# Altium integrated library Linear Technology Power Management PMIC Multifunction.IntLib: 360 symbols (part 12 of 42)
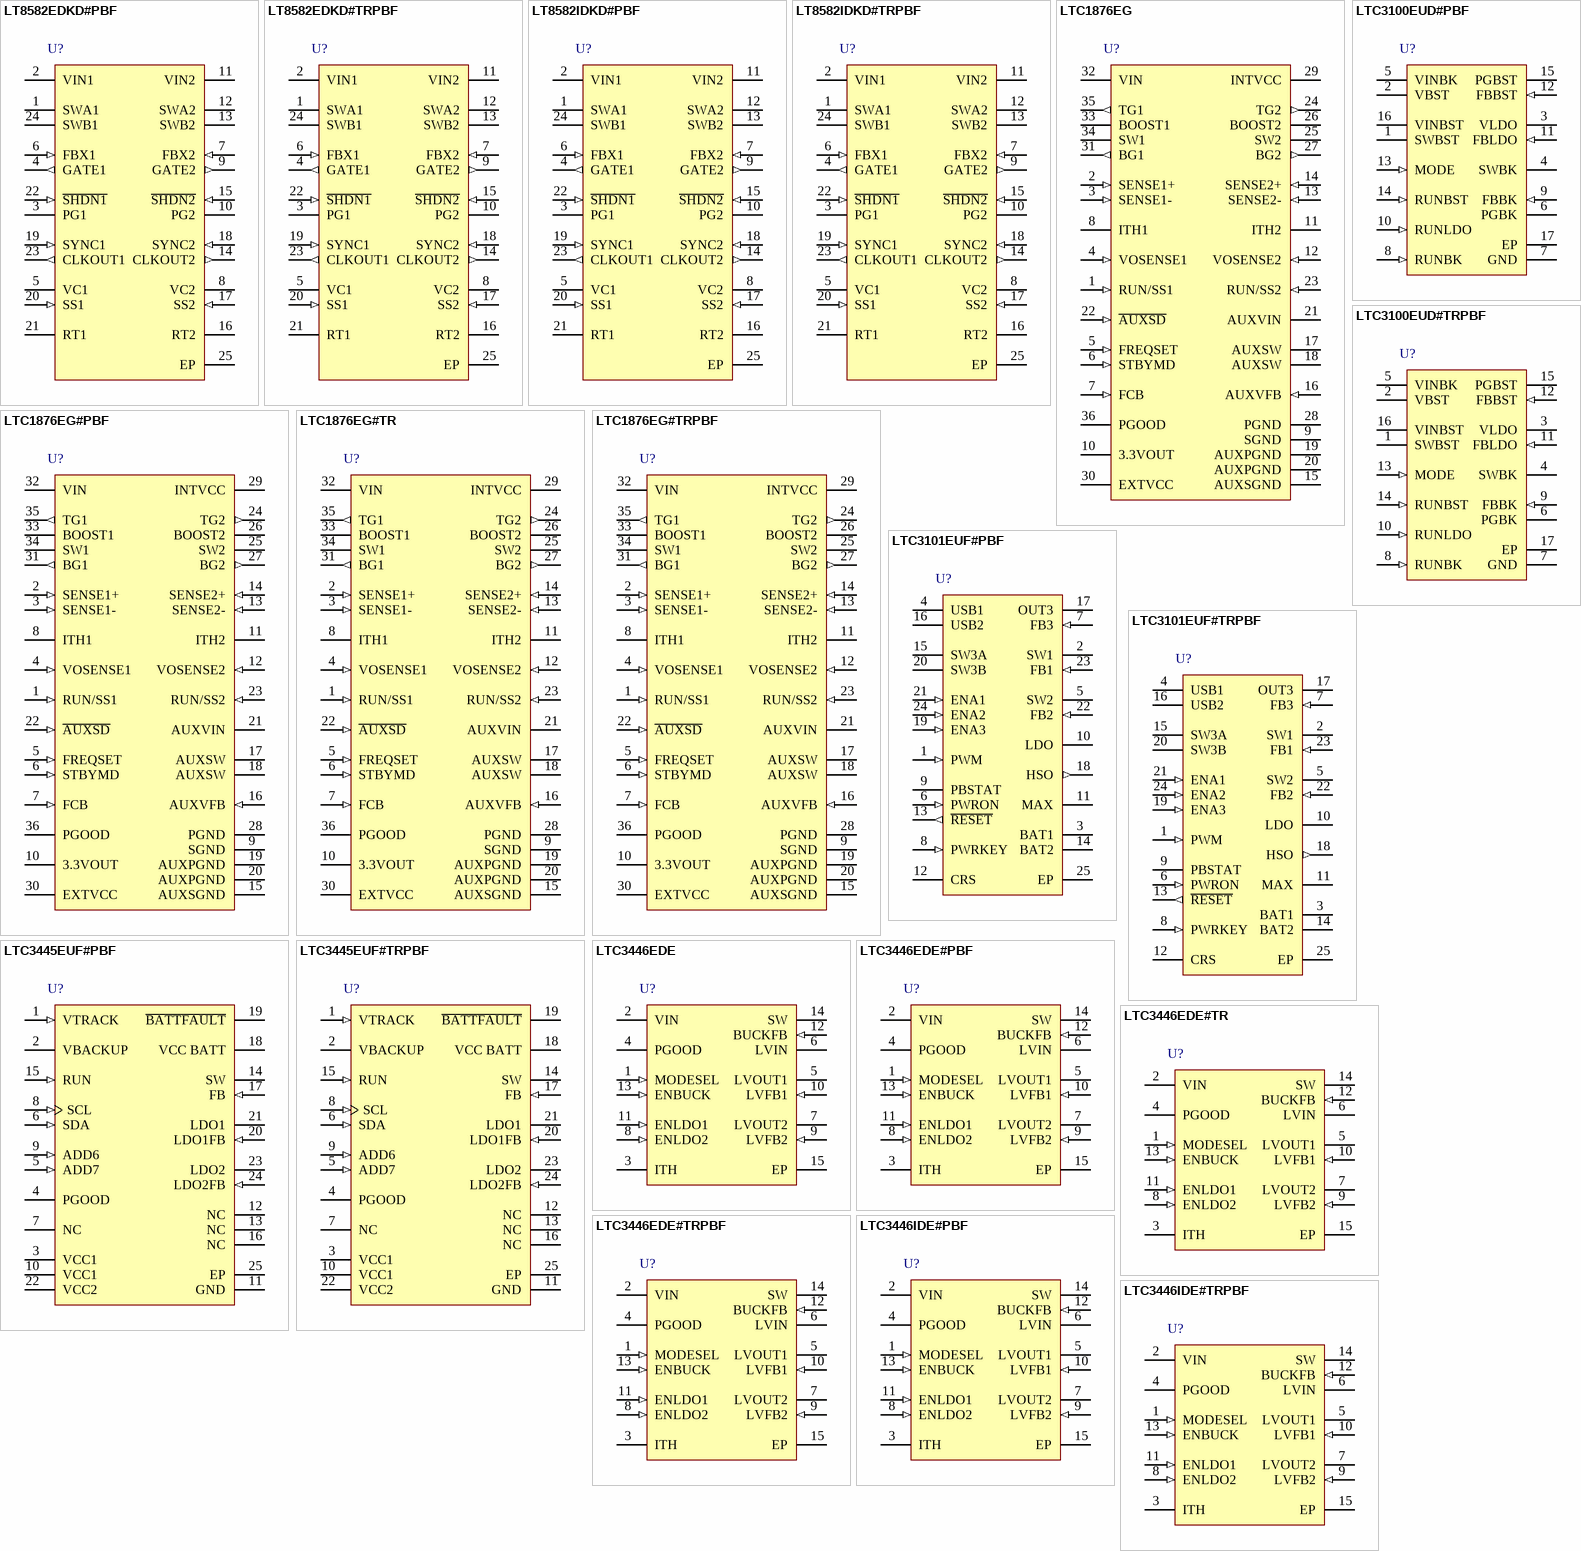
[diagram p29: symbols LT8582EDKD#PBF to LTC3446IDE#TRPBF]

## LTC1876EG#PBF
designator U?
High Efficiency, 2-Phase, Dual Synchronous Step-Down Switching Controller and Step-Up Regulator, 3.5 to 36 V Vin, 36-pin SOP (G-36), -40 to 85 degC, Pb-Free; Manufacturer: Linear Technology; PartNumber: LTC1876EG#PBF; Number of Outputs: 3; Vin Max(V): 36; Vin Min(V): 3.5; DatasheetVersion: Rev. A; PackageReference: G-36; PackageDescription: 36-Pin Plastic SSOP, Body 12.8 x 5.3 mm, Pitch 0.65 mm; Supplier 1: Digi-Key; Supplier Part Number 1: LTC1876EG#PBF-ND; Supplier 2: Newark; Supplier Part Number 2: 56M4292; RoHS: TRUE; Mounting Technology: Surface Mount; ComponentLink1Description: Manufacturer URL; ComponentLink1URL: http://www.linear.com/; ComponentLink2Description: Datasheet; ComponentLink2URL: http://cds.linear.com/docs/en/datasheet/1876fa.pdf; ComponentLink3Description: Package Specification; ComponentLink3URL: http://cds.linear.com/docs/en/packaging/SSOP_36_05-08-1640.pdf
footprint LT-G-36_N (SOP, 36-Leads, Body 13.1x5.6mm, Pitch 0.65mm, IPC Medium Density)
footprint LT-G-36_L (SOP, 36-Leads, Body 13.1x5.6mm, Pitch 0.65mm, IPC High Density)
footprint LT-G-36_M (SOP, 36-Leads, Body 13.1x5.6mm, Pitch 0.65mm, IPC Low Density)
pins: 1 RUN/SS1 (in) "Combination of Soft-Start, Run Control Inputs and Short-Circuit Detection Timers. A capacitor to ground at each of these pins sets the ramp time to full output current. Forcing either of these pins back below 1V causes the (See Datasheet)", 2 SENSE1+ (in) "The (+) Input to each Differential Current Comparator. The ITH pin voltage and controlled offsets between the SENSE- and SENSE+ pins in conjunction with RSENSE set the current trip threshold.", 3 SENSE1- (in) "The (-) Input to the Differential Current Comparators.", 4 VOSENSE1 (in) "Receives the remotelysensed feedback voltage for each controller from an external resistive divider across the output.", 5 FREQSET (in) "Frequency Control Input to the Oscillator. This pin can be left open, tied to ground, tied to INTVCC or driven by an external voltage source. This pin can also be used with an external phase detector to build a true (See Datasheet)", 6 STBYMD (in) "Control pin that determines which circuitry remains active when the controllers are shut down and/or provides a common control point to shut down both controllers. See the Operation section for details.", 7 FCB (in) "Forced Continuous Control Input. This input acts on both controllers and is normally used to regulate a secondary winding. Pulling this pin below 0.8V will force continuous synchronous operation on both controllers. Do not (See Datasheet)", 8 ITH1 "Error Amplifier Output and Switching Regulator Compensation Point. Each associated channel’s current comparator trip point increases with this control voltage.", 9 SGND (power) "Small signal ground common to both controllers, must be routed separately from high current grounds to the common (-) terminals of the COUT capacitors.", 10 3.3VOUT (power) "Output of a linear regulator capable of supplying up to 10mA DC with peak currents as high as 50mA.", 11 ITH2 "Error Amplifier Output and Switching Regulator Compensation Point. Each associated channel’s current comparator trip point increases with this control voltage.", 12 VOSENSE2 (in) "Receives the remotelysensed feedback voltage for each controller from an external resistive divider across the output.", 13 SENSE2- (in) "The (-) Input to the Differential Current Comparators.", 14 SENSE2+ (in) "The (+) Input to each Differential Current Comparator. The ITH pin voltage and controlled offsets between the SENSE- and SENSE+ pins in conjunction with RSENSE set the current trip threshold.", 15 AUXSGND (power) "Small Signal Ground of the Auxiliary Boost Regulator.", 16 AUXVFB (in) "Auxiliary Boost Regulator Feedback Voltage. This pin receives the feedback voltage from an external resistive divider across the auxiliary output.", 17 AUXSW "Switch Node Connections to Inductor for the Auxiliary Regulator. Voltage swing at these pins are from ground to (VOUT + voltage across Shottky diode). Minimize trace area at these pins to keep EMI down.", 18 AUXSW "Switch Node Connections to Inductor for the Auxiliary Regulator. Voltage swing at these pins are from ground to (VOUT + voltage across Shottky diode). Minimize trace area at these pins to keep EMI down.", 19 AUXPGND (power) "The Auxiliary Power Ground Pins. Its gate drive currents are returned to these pin.", 20 AUXPGND (power) "The Auxiliary Power Ground Pins. Its gate drive currents are returned to these pin.", 21 AUXVIN (power) "Auxiliary Boost Regulator Controller Supply Pin. Must be closely decoupled to AUXPGND.", 22 ~{AUXSD} (in) "Shutdown Pin for the Auxiliary Regulator. Connect to 2.4V or more to enable the auxiliary regulator or ground to shut the auxiliary regulator off.", 23 RUN/SS2 (in) "Combination of Soft-Start, Run Control Inputs and Short-Circuit Detection Timers. A capacitor to ground at each of these pins sets the ramp time to full output current. Forcing either of these pins back below 1V causes the (See Datasheet)", 24 TG2 (out) "High Current Gate Drives for Top N-Channel MOSFETs. These are the outputs of floating drivers with a voltage swing equal to INTVCC - 0.5V superimposed on the switch node voltage SW.", 25 SW2 "Switch Node Connections to Inductors. Voltage swing at these pins is from a Schottky diode (external) voltage drop below ground to VIN.", 26 BOOST2 "Bootstrapped Supplies to the Top Side Floating Drivers. Capacitors are connected between the boost and switch pins and Schottky diodes are tied between the boost and INTVCC pins. Voltage swing at the boost pins is from (See Datasheet)", 27 BG2 (out) "High Current Gate Drives for Bottom (synchronous) N-Channel MOSFETs. Voltage swing at these pins is from ground to INTVCC.", 28 PGND (power) "Driver Power Ground. Connects to sources of bottom (synchronous) N-channel MOSFETs, anode of the Schottky rectifier and the (-) terminal(s) of CIN.", 29 INTVCC (power) "Output of the Internal 5V Linear Low Dropout Regulator and the EXTVCC Switch. The driver and control circuits are powered from this voltage source. Must be decoupled to power ground with a minimum of 4.7mF tantalum or other, (See Datasheet)", 30 EXTVCC (power) "External Power Input to an Internal Switch Connected to INTVCC. This switch closes and supplies VCC power, bypassing the internal low dropout regulator, whenever EXTVCC is higher than 4.7V. See EXTVCC connection in (See Datasheet)", 31 BG1 (out) "High Current Gate Drives for Bottom (synchronous) N-Channel MOSFETs. Voltage swing at these pins is from ground to INTVCC.", 32 VIN (power) "Main Supply Pin. A bypass capacitor should be tied between this pin and the signal ground pin.", 33 BOOST1 "Bootstrapped Supplies to the Top Side Floating Drivers. Capacitors are connected between the boost and switch pins and Schottky diodes are tied between the boost and INTVCC pins. Voltage swing at the boost pins is from (See Datasheet)", 34 SW1 "Switch Node Connections to Inductors. Voltage swing at these pins is from a Schottky diode (external) voltage drop below ground to VIN.", 35 TG1 (out) "High Current Gate Drives for Top N-Channel MOSFETs. These are the outputs of floating drivers with a voltage swing equal to INTVCC - 0.5V superimposed on the switch node voltage SW.", 36 PGOOD (oc) "Open-Drain Logic Output. PGOOD is pulled to ground when the voltage on either VOSENSE pin is not within 7.5% of its setpoint."

## LTC1876EG#TR
designator U?
High Efficiency, 2-Phase, Dual Synchronous Step-Down Switching Controller and Step-Up Regulator, 3.5 to 36 V Vin, 36-pin SOP (G-36), -40 to 85 degC, Tape and Reel; Manufacturer: Linear Technology; PartNumber: LTC1876EG#TR; Number of Outputs: 3; Vin Max(V): 36; Vin Min(V): 3.5; DatasheetVersion: Rev. A; PackageReference: G-36; PackageDescription: 36-Pin Plastic SSOP, Body 12.8 x 5.3 mm, Pitch 0.65 mm; Supplier 1: Digi-Key; Supplier Part Number 1: LTC1876EG#TR-ND; Packing: Tape and Reel; RoHS: FALSE; Mounting Technology: Surface Mount; ComponentLink1Description: Manufacturer URL; ComponentLink1URL: http://www.linear.com/; ComponentLink2Description: Datasheet; ComponentLink2URL: http://cds.linear.com/docs/en/datasheet/1876fa.pdf; ComponentLink3Description: Package Specification; ComponentLink3URL: http://cds.linear.com/docs/en/packaging/SSOP_36_05-08-1640.pdf
footprint LT-G-36_N (SOP, 36-Leads, Body 13.1x5.6mm, Pitch 0.65mm, IPC Medium Density)
footprint LT-G-36_L (SOP, 36-Leads, Body 13.1x5.6mm, Pitch 0.65mm, IPC High Density)
footprint LT-G-36_M (SOP, 36-Leads, Body 13.1x5.6mm, Pitch 0.65mm, IPC Low Density)
pins: 1 RUN/SS1 (in) "Combination of Soft-Start, Run Control Inputs and Short-Circuit Detection Timers. A capacitor to ground at each of these pins sets the ramp time to full output current. Forcing either of these pins back below 1V causes the (See Datasheet)", 2 SENSE1+ (in) "The (+) Input to each Differential Current Comparator. The ITH pin voltage and controlled offsets between the SENSE- and SENSE+ pins in conjunction with RSENSE set the current trip threshold.", 3 SENSE1- (in) "The (-) Input to the Differential Current Comparators.", 4 VOSENSE1 (in) "Receives the remotelysensed feedback voltage for each controller from an external resistive divider across the output.", 5 FREQSET (in) "Frequency Control Input to the Oscillator. This pin can be left open, tied to ground, tied to INTVCC or driven by an external voltage source. This pin can also be used with an external phase detector to build a true (See Datasheet)", 6 STBYMD (in) "Control pin that determines which circuitry remains active when the controllers are shut down and/or provides a common control point to shut down both controllers. See the Operation section for details.", 7 FCB (in) "Forced Continuous Control Input. This input acts on both controllers and is normally used to regulate a secondary winding. Pulling this pin below 0.8V will force continuous synchronous operation on both controllers. Do not (See Datasheet)", 8 ITH1 "Error Amplifier Output and Switching Regulator Compensation Point. Each associated channel’s current comparator trip point increases with this control voltage.", 9 SGND (power) "Small signal ground common to both controllers, must be routed separately from high current grounds to the common (-) terminals of the COUT capacitors.", 10 3.3VOUT (power) "Output of a linear regulator capable of supplying up to 10mA DC with peak currents as high as 50mA.", 11 ITH2 "Error Amplifier Output and Switching Regulator Compensation Point. Each associated channel’s current comparator trip point increases with this control voltage.", 12 VOSENSE2 (in) "Receives the remotelysensed feedback voltage for each controller from an external resistive divider across the output.", 13 SENSE2- (in) "The (-) Input to the Differential Current Comparators.", 14 SENSE2+ (in) "The (+) Input to each Differential Current Comparator. The ITH pin voltage and controlled offsets between the SENSE- and SENSE+ pins in conjunction with RSENSE set the current trip threshold.", 15 AUXSGND (power) "Small Signal Ground of the Auxiliary Boost Regulator.", 16 AUXVFB (in) "Auxiliary Boost Regulator Feedback Voltage. This pin receives the feedback voltage from an external resistive divider across the auxiliary output.", 17 AUXSW "Switch Node Connections to Inductor for the Auxiliary Regulator. Voltage swing at these pins are from ground to (VOUT + voltage across Shottky diode). Minimize trace area at these pins to keep EMI down.", 18 AUXSW "Switch Node Connections to Inductor for the Auxiliary Regulator. Voltage swing at these pins are from ground to (VOUT + voltage across Shottky diode). Minimize trace area at these pins to keep EMI down.", 19 AUXPGND (power) "The Auxiliary Power Ground Pins. Its gate drive currents are returned to these pin.", 20 AUXPGND (power) "The Auxiliary Power Ground Pins. Its gate drive currents are returned to these pin.", 21 AUXVIN (power) "Auxiliary Boost Regulator Controller Supply Pin. Must be closely decoupled to AUXPGND.", 22 ~{AUXSD} (in) "Shutdown Pin for the Auxiliary Regulator. Connect to 2.4V or more to enable the auxiliary regulator or ground to shut the auxiliary regulator off.", 23 RUN/SS2 (in) "Combination of Soft-Start, Run Control Inputs and Short-Circuit Detection Timers. A capacitor to ground at each of these pins sets the ramp time to full output current. Forcing either of these pins back below 1V causes the (See Datasheet)", 24 TG2 (out) "High Current Gate Drives for Top N-Channel MOSFETs. These are the outputs of floating drivers with a voltage swing equal to INTVCC - 0.5V superimposed on the switch node voltage SW.", 25 SW2 "Switch Node Connections to Inductors. Voltage swing at these pins is from a Schottky diode (external) voltage drop below ground to VIN.", 26 BOOST2 "Bootstrapped Supplies to the Top Side Floating Drivers. Capacitors are connected between the boost and switch pins and Schottky diodes are tied between the boost and INTVCC pins. Voltage swing at the boost pins is from (See Datasheet)", 27 BG2 (out) "High Current Gate Drives for Bottom (synchronous) N-Channel MOSFETs. Voltage swing at these pins is from ground to INTVCC.", 28 PGND (power) "Driver Power Ground. Connects to sources of bottom (synchronous) N-channel MOSFETs, anode of the Schottky rectifier and the (-) terminal(s) of CIN.", 29 INTVCC (power) "Output of the Internal 5V Linear Low Dropout Regulator and the EXTVCC Switch. The driver and control circuits are powered from this voltage source. Must be decoupled to power ground with a minimum of 4.7mF tantalum or other, (See Datasheet)", 30 EXTVCC (power) "External Power Input to an Internal Switch Connected to INTVCC. This switch closes and supplies VCC power, bypassing the internal low dropout regulator, whenever EXTVCC is higher than 4.7V. See EXTVCC connection in (See Datasheet)", 31 BG1 (out) "High Current Gate Drives for Bottom (synchronous) N-Channel MOSFETs. Voltage swing at these pins is from ground to INTVCC.", 32 VIN (power) "Main Supply Pin. A bypass capacitor should be tied between this pin and the signal ground pin.", 33 BOOST1 "Bootstrapped Supplies to the Top Side Floating Drivers. Capacitors are connected between the boost and switch pins and Schottky diodes are tied between the boost and INTVCC pins. Voltage swing at the boost pins is from (See Datasheet)", 34 SW1 "Switch Node Connections to Inductors. Voltage swing at these pins is from a Schottky diode (external) voltage drop below ground to VIN.", 35 TG1 (out) "High Current Gate Drives for Top N-Channel MOSFETs. These are the outputs of floating drivers with a voltage swing equal to INTVCC - 0.5V superimposed on the switch node voltage SW.", 36 PGOOD (oc) "Open-Drain Logic Output. PGOOD is pulled to ground when the voltage on either VOSENSE pin is not within 7.5% of its setpoint."

## LTC1876EG#TRPBF
designator U?
High Efficiency, 2-Phase, Dual Synchronous Step-Down Switching Controller and Step-Up Regulator, 3.5 to 36 V Vin, 36-pin SOP (G-36), -40 to 85 degC, Pb-Free, Tape and Reel; Manufacturer: Linear Technology; PartNumber: LTC1876EG#TRPBF; Number of Outputs: 3; Vin Max(V): 36; Vin Min(V): 3.5; DatasheetVersion: Rev. A; PackageReference: G-36; PackageDescription: 36-Pin Plastic SSOP, Body 12.8 x 5.3 mm, Pitch 0.65 mm; Supplier 1: Digi-Key; Supplier Part Number 1: LTC1876EG#TRPBF-ND; Packing: Tape and Reel; RoHS: TRUE; Mounting Technology: Surface Mount; ComponentLink1Description: Manufacturer URL; ComponentLink1URL: http://www.linear.com/; ComponentLink2Description: Datasheet; ComponentLink2URL: http://cds.linear.com/docs/en/datasheet/1876fa.pdf; ComponentLink3Description: Package Specification; ComponentLink3URL: http://cds.linear.com/docs/en/packaging/SSOP_36_05-08-1640.pdf
footprint LT-G-36_N (SOP, 36-Leads, Body 13.1x5.6mm, Pitch 0.65mm, IPC Medium Density)
footprint LT-G-36_L (SOP, 36-Leads, Body 13.1x5.6mm, Pitch 0.65mm, IPC High Density)
footprint LT-G-36_M (SOP, 36-Leads, Body 13.1x5.6mm, Pitch 0.65mm, IPC Low Density)
pins: 1 RUN/SS1 (in) "Combination of Soft-Start, Run Control Inputs and Short-Circuit Detection Timers. A capacitor to ground at each of these pins sets the ramp time to full output current. Forcing either of these pins back below 1V causes the (See Datasheet)", 2 SENSE1+ (in) "The (+) Input to each Differential Current Comparator. The ITH pin voltage and controlled offsets between the SENSE- and SENSE+ pins in conjunction with RSENSE set the current trip threshold.", 3 SENSE1- (in) "The (-) Input to the Differential Current Comparators.", 4 VOSENSE1 (in) "Receives the remotelysensed feedback voltage for each controller from an external resistive divider across the output.", 5 FREQSET (in) "Frequency Control Input to the Oscillator. This pin can be left open, tied to ground, tied to INTVCC or driven by an external voltage source. This pin can also be used with an external phase detector to build a true (See Datasheet)", 6 STBYMD (in) "Control pin that determines which circuitry remains active when the controllers are shut down and/or provides a common control point to shut down both controllers. See the Operation section for details.", 7 FCB (in) "Forced Continuous Control Input. This input acts on both controllers and is normally used to regulate a secondary winding. Pulling this pin below 0.8V will force continuous synchronous operation on both controllers. Do not (See Datasheet)", 8 ITH1 "Error Amplifier Output and Switching Regulator Compensation Point. Each associated channel’s current comparator trip point increases with this control voltage.", 9 SGND (power) "Small signal ground common to both controllers, must be routed separately from high current grounds to the common (-) terminals of the COUT capacitors.", 10 3.3VOUT (power) "Output of a linear regulator capable of supplying up to 10mA DC with peak currents as high as 50mA.", 11 ITH2 "Error Amplifier Output and Switching Regulator Compensation Point. Each associated channel’s current comparator trip point increases with this control voltage.", 12 VOSENSE2 (in) "Receives the remotelysensed feedback voltage for each controller from an external resistive divider across the output.", 13 SENSE2- (in) "The (-) Input to the Differential Current Comparators.", 14 SENSE2+ (in) "The (+) Input to each Differential Current Comparator. The ITH pin voltage and controlled offsets between the SENSE- and SENSE+ pins in conjunction with RSENSE set the current trip threshold.", 15 AUXSGND (power) "Small Signal Ground of the Auxiliary Boost Regulator.", 16 AUXVFB (in) "Auxiliary Boost Regulator Feedback Voltage. This pin receives the feedback voltage from an external resistive divider across the auxiliary output.", 17 AUXSW "Switch Node Connections to Inductor for the Auxiliary Regulator. Voltage swing at these pins are from ground to (VOUT + voltage across Shottky diode). Minimize trace area at these pins to keep EMI down.", 18 AUXSW "Switch Node Connections to Inductor for the Auxiliary Regulator. Voltage swing at these pins are from ground to (VOUT + voltage across Shottky diode). Minimize trace area at these pins to keep EMI down.", 19 AUXPGND (power) "The Auxiliary Power Ground Pins. Its gate drive currents are returned to these pin.", 20 AUXPGND (power) "The Auxiliary Power Ground Pins. Its gate drive currents are returned to these pin.", 21 AUXVIN (power) "Auxiliary Boost Regulator Controller Supply Pin. Must be closely decoupled to AUXPGND.", 22 ~{AUXSD} (in) "Shutdown Pin for the Auxiliary Regulator. Connect to 2.4V or more to enable the auxiliary regulator or ground to shut the auxiliary regulator off.", 23 RUN/SS2 (in) "Combination of Soft-Start, Run Control Inputs and Short-Circuit Detection Timers. A capacitor to ground at each of these pins sets the ramp time to full output current. Forcing either of these pins back below 1V causes the (See Datasheet)", 24 TG2 (out) "High Current Gate Drives for Top N-Channel MOSFETs. These are the outputs of floating drivers with a voltage swing equal to INTVCC - 0.5V superimposed on the switch node voltage SW.", 25 SW2 "Switch Node Connections to Inductors. Voltage swing at these pins is from a Schottky diode (external) voltage drop below ground to VIN.", 26 BOOST2 "Bootstrapped Supplies to the Top Side Floating Drivers. Capacitors are connected between the boost and switch pins and Schottky diodes are tied between the boost and INTVCC pins. Voltage swing at the boost pins is from (See Datasheet)", 27 BG2 (out) "High Current Gate Drives for Bottom (synchronous) N-Channel MOSFETs. Voltage swing at these pins is from ground to INTVCC.", 28 PGND (power) "Driver Power Ground. Connects to sources of bottom (synchronous) N-channel MOSFETs, anode of the Schottky rectifier and the (-) terminal(s) of CIN.", 29 INTVCC (power) "Output of the Internal 5V Linear Low Dropout Regulator and the EXTVCC Switch. The driver and control circuits are powered from this voltage source. Must be decoupled to power ground with a minimum of 4.7mF tantalum or other, (See Datasheet)", 30 EXTVCC (power) "External Power Input to an Internal Switch Connected to INTVCC. This switch closes and supplies VCC power, bypassing the internal low dropout regulator, whenever EXTVCC is higher than 4.7V. See EXTVCC connection in (See Datasheet)", 31 BG1 (out) "High Current Gate Drives for Bottom (synchronous) N-Channel MOSFETs. Voltage swing at these pins is from ground to INTVCC.", 32 VIN (power) "Main Supply Pin. A bypass capacitor should be tied between this pin and the signal ground pin.", 33 BOOST1 "Bootstrapped Supplies to the Top Side Floating Drivers. Capacitors are connected between the boost and switch pins and Schottky diodes are tied between the boost and INTVCC pins. Voltage swing at the boost pins is from (See Datasheet)", 34 SW1 "Switch Node Connections to Inductors. Voltage swing at these pins is from a Schottky diode (external) voltage drop below ground to VIN.", 35 TG1 (out) "High Current Gate Drives for Top N-Channel MOSFETs. These are the outputs of floating drivers with a voltage swing equal to INTVCC - 0.5V superimposed on the switch node voltage SW.", 36 PGOOD (oc) "Open-Drain Logic Output. PGOOD is pulled to ground when the voltage on either VOSENSE pin is not within 7.5% of its setpoint."

## LTC3100EUD#PBF
designator U?
1.5 MHz Synchronous Dual Channel DC/DC Converter and 100 mA LDO, 0.65 to 5 V Vin, 16-pin QFN (UD-16), -40 to 85 degC, Pb-Free; Manufacturer: Linear Technology; PartNumber: LTC3100EUD#PBF; Number of Outputs: 3; Vin Max(V): 5; Vin Min(V): 0.65; DatasheetVersion: Rev. A; PackageVersion: Jun-10; PackageReference: UD-16; PackageDescription: 16-Pin Plastic QFN, Body 3 x 3 mm, Pitch 0.5 mm; Supplier 1: Digi-Key; Supplier Part Number 1: LTC3100EUD#PBF-ND; Supplier 2: Farnell; Supplier Part Number 2: 1715228; RoHS: TRUE; Mounting Technology: Surface Mount; Code_JEDEC: MO-220; ComponentLink1Description: Manufacturer URL; ComponentLink1URL: http://www.linear.com/; ComponentLink2Description: Datasheet; ComponentLink2URL: http://cds.linear.com/docs/en/datasheet/3100fa.pdf; ComponentLink3Description: Package Specification; ComponentLink3URL: http://cds.linear.com/docs/en/packaging/QFN_16_05-08-1691.pdf
footprint LT-UD-16_N (QFN, 16-Leads, Body 3x3mm, Pitch 0.5mm, Thermal Pad 1.45x1.45mm, IPC Medium Density)
footprint LT-UD-16_L (QFN, 16-Leads, Body 3x3mm, Pitch 0.5mm, Thermal Pad 1.45x1.45mm, IPC High Density)
footprint LT-UD-16_M (QFN, 16-Leads, Body 3x3mm, Pitch 0.5mm, Thermal Pad 1.45x1.45mm, IPC Low Density)
pins: 1 SWBST "Switch Pin for the Boost Converter. Connect the boost inductor between SWBST and VINBST. Keep PCB trace lengths as short and wide as possible to reduce EMI. If the inductor current falls to zero, an internal anti-ringing (See Datasheet)", 2 VBST (power) "Output Voltage for the Boost Converter (which is the drain of the internal synchronous rectifier) and Input Voltage for the LDO. PCB trace length from VBST to the output filter capacitor (10uF minimum) should be as short and (See Datasheet)", 3 VLDO (power) "Output Voltage of the LDO Regulator. Connect a 1uF ceramic capacitor between VLDO and GND. Larger values of capacitance may be used for higher PSRR or improved transient response.", 4 SWBK (power) "Switch Pin for the Buck Converter. Connect the buck inductor between SWBK and the buck output filter capacitor. Keep PCB trace lengths as short and wide as possible to reduce EMI.", 5 VINBK (power) "Input Voltage for the Buck Converter. Connect a minimum of 4.7uF ceramic decoupling capacitor from this pin to ground.", 6 PGBK (oc) "Open-Drain Output That Pulls Low When FBBK Is More Than 8% Below Its Regulated Voltage. Conect a pull-up resistor from this pin to a positive supply less than 6V.", 7 GND (power) "Signal Ground. Provide a short, direct PCB path between GND and the PC board ground plane connected to the Exposed Pad.", 8 RUNBK (in) "Logic-Controlled Shutdown Input for the Buck Converter. There is an internal 4Mohm pull-down on this pin.", 9 FBBK (in) "Feedback Input to the gm Error Amplifier for the Buck Converter. Connect the resistor divider tap to this pin. The output voltage can be adjusted from 0.6V to 5.5V.", 10 RUNLDO (in) "Logic-Controlled Shutdown Input for the LDO Regulator. There is an internal 4Mohm pull-down on this pin.", 11 FBLDO (in) "Feedback Input to the gm Error Amplifier for the LDO Regulator. Connect the resistor divider tap to this pin. The output voltage can be adjusted from 0.6V to 5.25V.", 12 FBBST (in) "Feedback Input to the gm Error Amplifier for the Boost Converter. Connect the resistor divider tap to this pin. The output voltage can be adjusted from 1.5V to 5.25V.", 13 MODE (in) "Logic-Controlled Mode Select Pin for Both the Boost and Buck Converters. There is an internal 1MOhm pull-up on this pin to the higher of VINBST, VBST or VINBK.", 14 RUNBST (in) "Logic-Controlled Shutdown Input for the Boost Converter. There is an internal 4Mohm pull-down on this pin.", 15 PGBST (oc) "Open-Drain Output That Pulls to Ground When FBBST Is More Than 8% Below Its Regulated Voltage. Connect a pull-up resistor from this pin to a positive supply less than 6V.", 16 VINBST (power) "Input Voltage for the Boost Converter. Connect a minimum of 1uF ceramic decoupling capacitor from this pin to ground.", 17 EP (power) "The Exposed Pad must be soldered to the PCB ground plane. It serves as the power ground connection, and as a means of conducting heat away from the die."

## LTC3100EUD#TRPBF
designator U?
1.5 MHz Synchronous Dual Channel DC/DC Converter and 100 mA LDO, 0.65 to 5 V Vin, 16-pin QFN (UD-16), -40 to 85 degC, Pb-Free, Tape and Reel; Manufacturer: Linear Technology; PartNumber: LTC3100EUD#TRPBF; Number of Outputs: 3; Vin Max(V): 5; Vin Min(V): 0.65; DatasheetVersion: Rev. A; PackageVersion: Jun-10; PackageReference: UD-16; PackageDescription: 16-Pin Plastic QFN, Body 3 x 3 mm, Pitch 0.5 mm; Supplier 1: Digi-Key; Supplier Part Number 1: LTC3100EUD#TRPBF-ND; Packing: Tape and Reel; RoHS: TRUE; Mounting Technology: Surface Mount; Code_JEDEC: MO-220; ComponentLink1Description: Manufacturer URL; ComponentLink1URL: http://www.linear.com/; ComponentLink2Description: Datasheet; ComponentLink2URL: http://cds.linear.com/docs/en/datasheet/3100fa.pdf; ComponentLink3Description: Package Specification; ComponentLink3URL: http://cds.linear.com/docs/en/packaging/QFN_16_05-08-1691.pdf
footprint LT-UD-16_N (QFN, 16-Leads, Body 3x3mm, Pitch 0.5mm, Thermal Pad 1.45x1.45mm, IPC Medium Density)
footprint LT-UD-16_L (QFN, 16-Leads, Body 3x3mm, Pitch 0.5mm, Thermal Pad 1.45x1.45mm, IPC High Density)
footprint LT-UD-16_M (QFN, 16-Leads, Body 3x3mm, Pitch 0.5mm, Thermal Pad 1.45x1.45mm, IPC Low Density)
pins: 1 SWBST "Switch Pin for the Boost Converter. Connect the boost inductor between SWBST and VINBST. Keep PCB trace lengths as short and wide as possible to reduce EMI. If the inductor current falls to zero, an internal anti-ringing (See Datasheet)", 2 VBST (power) "Output Voltage for the Boost Converter (which is the drain of the internal synchronous rectifier) and Input Voltage for the LDO. PCB trace length from VBST to the output filter capacitor (10uF minimum) should be as short and (See Datasheet)", 3 VLDO (power) "Output Voltage of the LDO Regulator. Connect a 1uF ceramic capacitor between VLDO and GND. Larger values of capacitance may be used for higher PSRR or improved transient response.", 4 SWBK (power) "Switch Pin for the Buck Converter. Connect the buck inductor between SWBK and the buck output filter capacitor. Keep PCB trace lengths as short and wide as possible to reduce EMI.", 5 VINBK (power) "Input Voltage for the Buck Converter. Connect a minimum of 4.7uF ceramic decoupling capacitor from this pin to ground.", 6 PGBK (oc) "Open-Drain Output That Pulls Low When FBBK Is More Than 8% Below Its Regulated Voltage. Conect a pull-up resistor from this pin to a positive supply less than 6V.", 7 GND (power) "Signal Ground. Provide a short, direct PCB path between GND and the PC board ground plane connected to the Exposed Pad.", 8 RUNBK (in) "Logic-Controlled Shutdown Input for the Buck Converter. There is an internal 4Mohm pull-down on this pin.", 9 FBBK (in) "Feedback Input to the gm Error Amplifier for the Buck Converter. Connect the resistor divider tap to this pin. The output voltage can be adjusted from 0.6V to 5.5V.", 10 RUNLDO (in) "Logic-Controlled Shutdown Input for the LDO Regulator. There is an internal 4Mohm pull-down on this pin.", 11 FBLDO (in) "Feedback Input to the gm Error Amplifier for the LDO Regulator. Connect the resistor divider tap to this pin. The output voltage can be adjusted from 0.6V to 5.25V.", 12 FBBST (in) "Feedback Input to the gm Error Amplifier for the Boost Converter. Connect the resistor divider tap to this pin. The output voltage can be adjusted from 1.5V to 5.25V.", 13 MODE (in) "Logic-Controlled Mode Select Pin for Both the Boost and Buck Converters. There is an internal 1MOhm pull-up on this pin to the higher of VINBST, VBST or VINBK.", 14 RUNBST (in) "Logic-Controlled Shutdown Input for the Boost Converter. There is an internal 4Mohm pull-down on this pin.", 15 PGBST (oc) "Open-Drain Output That Pulls to Ground When FBBST Is More Than 8% Below Its Regulated Voltage. Connect a pull-up resistor from this pin to a positive supply less than 6V.", 16 VINBST (power) "Input Voltage for the Boost Converter. Connect a minimum of 1uF ceramic decoupling capacitor from this pin to ground.", 17 EP (power) "The Exposed Pad must be soldered to the PCB ground plane. It serves as the power ground connection, and as a means of conducting heat away from the die."

## LTC3101EUF#PBF
designator U?
Wide Vin, Multi-Output DC/DC Converter and PowerPath Controller, 1.8 to 5.5 V Vin, 24-pin QFN (UF-24), -40 to 85 degC, Pb-Free; Manufacturer: Linear Technology; PartNumber: LTC3101EUF#PBF; Number of Outputs: 3; Vin Max(V): 5.5; Vin Min(V): 1.8; DatasheetVersion: Rev. B; PackageVersion: Rev. B, 02/2012; PackageReference: UF24; PackageDescription: 24-Pin Plastic QFN, Body 4 x 4 mm, Pitch 0.5 mm; Supplier 1: Digi-Key; Supplier Part Number 1: LTC3101EUF#PBF-ND; Supplier 2: Newark; Supplier Part Number 2: 44P3976; RoHS: TRUE; Mounting Technology: Surface Mount; Code_JEDEC: MO-220; ComponentLink1Description: Manufacturer URL; ComponentLink1URL: http://www.linear.com/; ComponentLink2Description: Datasheet; ComponentLink2URL: http://cds.linear.com/docs/en/datasheet/3101fb.pdf; ComponentLink3Description: Package Specification; ComponentLink3URL: http://cds.linear.com/docs/en/packaging/%28UF24%29%20QFN%2005-08-1697%20Rev%20B.pdf
footprint LT-UF-24_N (QFN, 24-Leads, Body 4.1x4.1mm, Pitch 0.5mm, Thermal Pad 2.45x2.45mm, IPC Medium Density)
footprint LT-UF-24_L (QFN, 24-Leads, Body 4.1x4.1mm, Pitch 0.5mm, Thermal Pad 2.45x2.45mm, IPC High Density)
footprint LT-UF-24_M (QFN, 24-Leads, Body 4.1x4.1mm, Pitch 0.5mm, Thermal Pad 2.45x2.45mm, IPC Low Density)
pins: 1 PWM (in) "Pulse Width Modulation/Burst Mode Selection Input. Forcing this pin high causes all switching converters to operate in low noise fixed frequency PWM mode. Forcing this pin low enables Burst Mode operation for all converters. (See Datasheet)", 2 SW1 (power) "Buck Converter 1 Switch Pin. This pin should be connected to one side of the buck inductor.", 3 BAT1 (power) "Battery Power Input for Both Buck Converters. A 4.7uF or larger bypass capacitor should be connected between this pin and ground. The bypass capacitor should be located as close to the IC as possible and should via directly (See Datasheet)", 4 USB1 (power) "USB or Wall Adapter Power Input for Both Buck Converters. A 4.7uF or larger bypass capacitor should be connected from this pin to ground. The bypass capacitor should be located as close to the IC as possible and should via (See Datasheet)", 5 SW2 (power) "Buck Converter 2 Switch Pin. This pin should be connected to one side of the buck inductor.", 6 PWRON (in) "Power-On Input. Forcing this input high enables the IC. Typically, the PWRKEY input is used to initially enable the LTC3101 while the microprocessor is powering up. Once the microprocessor is initialized, it forces PWRON (See Datasheet)", 7 FB3 (in) "Feedback Voltage Input for the Buck-Boost Converter. The resistor divider connected to this pin sets the output voltage for buck-boost converter", 8 PWRKEY (in) "Pushbutton Power O\N\/OFF Key. Forcing this pin to ground will turn on the LTC3101 DC/DC converters in the internally controlled sequence and initiate a microprocessor reset. This pin is usually connected to an external (See Datasheet)", 9 PBSTAT (oc) "Power O\N\/OFF Key Status Pin. This is a debounced, open-drain output that indicates the state of the PWRKEY pin to the microprocessor. In the typical application, the microprocessor monitors this pin to detect a second (See Datasheet)", 10 LDO (power) "Always-Alive LDO Output. This output is internally regulated to 1.8V (typical) and is guaranteed to supply an external load of up to 50mA. The LDO output is always active whenever either supply, battery or USB power, is (See Datasheet)", 11 MAX (power) "Power Output That Tracks the Higher Voltage Input Supply. This output is driven to the higher of the two power inputs, USB2 or BAT2. This output can support a load current of up to 200mA and is short-circuit protected. The (See Datasheet)", 12 CRS "Power-on Reset Duration Programming Capacitor. An external capacitor is connected from CRS to ground to set the duration of the microprocessor poweron reset signal.", 13 ~{RESET} (out) "Active-Low uP Reset and Fault Signal. This pin provides an active-low microprocessor reset signal. During the power-up sequence, the uP reset signal is held low until all converters are in regulation for a duration (See Datasheet)", 14 BAT2 (power) "Battery Power Input for the Buck-Boost Converter. A 10uF or larger bypass capacitor should be connected between this pin and ground. The bypass capacitor should be located as close to the IC as possible and should via (See Datasheet)", 15 SW3A "Buck-Boost Switch Pin. This pin should be connected to one side of the buck-boost inductor.", 16 USB2 (power) "USB or Wall Adapter Power Input for the Buck-Boost Converter. A 10uF or larger bypass capacitor should be connected from this pin to ground. The bypass capacitor should be located as close to the IC as possible and should (See Datasheet)", 17 OUT3 (power) "Buck-Boost Output Voltage. This pin is the power output for the buck-boost regulator. It should be connected to a low ESR capacitor with a value of at least 10uF. For higher output current applications (>400mA), it is (See Datasheet)", 18 HSO (out) "Hot Swap Output. An internal current-limited switch connects the HSO output to the buck-boost output voltage after the buck-boost output reaches regulation. With the buck-boost operating in PWM mode, this output is (See Datasheet)", 19 ENA3 (in) "Enable Pin for Buck-Boost Converter. Forcing this pin above 1V will turn on the buck-boost converter when the IC is enabled (via the pushbutton interface). Forcing this pin below 0.3V will disable the buck-boost converter.", 20 SW3B "Buck-Boost Switch Pin. This pin should be connected to one side of the buck-boost inductor", 21 ENA1 (in) "Enable Pin for Buck Converter 1. Forcing this pin above 1V will turn on the buck converter when the IC is enabled (via the pushbutton interface). Forcing this pin below 0.3V will disable buck converter 1.", 22 FB2 (in) "Feedback Voltage Input for Buck Converter 2. The resistor divider connected to this pin sets the output voltage for buck converter 2.", 23 FB1 (in) "Feedback Voltage Input for Buck Converter 1. The resistor divider connected to this pin sets the output voltage for buck converter 1.", 24 ENA2 (in) "Enable Pin for Buck Converter 2. Forcing this pin above 1V will turn on the buck converter when the IC is enabled (via the pushbutton interface). Forcing this pin below 0.3V will disable buck converter 2.", 25 EP (power) "Small-Signal and Power Ground for the IC. The Exposed Pad must be soldered to the PCB and electrically connected to ground through the shortest and lowest impedance connection possible."

## LTC3101EUF#TRPBF
designator U?
Wide Vin, Multi-Output DC/DC Converter and PowerPath Controller, 1.8 to 5.5 V Vin, 24-pin QFN (UF-24), -40 to 85 degC, Pb-Free, Tape and Reel; Manufacturer: Linear Technology; PartNumber: LTC3101EUF#TRPBF; Number of Outputs: 3; Vin Max(V): 5.5; Vin Min(V): 1.8; DatasheetVersion: Rev. B; PackageVersion: Rev. B, 02/2012; PackageReference: UF24; PackageDescription: 24-Pin Plastic QFN, Body 4 x 4 mm, Pitch 0.5 mm; Supplier 1: Digi-Key; Supplier Part Number 1: LTC3101EUF#TRPBF-ND; Supplier 2: Newark; Supplier Part Number 2: 44P3977; Packing: Tape and Reel; RoHS: TRUE; Mounting Technology: Surface Mount; Code_JEDEC: MO-220; ComponentLink1Description: Manufacturer URL; ComponentLink1URL: http://www.linear.com/; ComponentLink2Description: Datasheet; ComponentLink2URL: http://cds.linear.com/docs/en/datasheet/3101fb.pdf; ComponentLink3Description: Package Specification; ComponentLink3URL: http://cds.linear.com/docs/en/packaging/%28UF24%29%20QFN%2005-08-1697%20Rev%20B.pdf
footprint LT-UF-24_N (QFN, 24-Leads, Body 4.1x4.1mm, Pitch 0.5mm, Thermal Pad 2.45x2.45mm, IPC Medium Density)
footprint LT-UF-24_L (QFN, 24-Leads, Body 4.1x4.1mm, Pitch 0.5mm, Thermal Pad 2.45x2.45mm, IPC High Density)
footprint LT-UF-24_M (QFN, 24-Leads, Body 4.1x4.1mm, Pitch 0.5mm, Thermal Pad 2.45x2.45mm, IPC Low Density)
pins: 1 PWM (in) "Pulse Width Modulation/Burst Mode Selection Input. Forcing this pin high causes all switching converters to operate in low noise fixed frequency PWM mode. Forcing this pin low enables Burst Mode operation for all converters. (See Datasheet)", 2 SW1 (power) "Buck Converter 1 Switch Pin. This pin should be connected to one side of the buck inductor.", 3 BAT1 (power) "Battery Power Input for Both Buck Converters. A 4.7uF or larger bypass capacitor should be connected between this pin and ground. The bypass capacitor should be located as close to the IC as possible and should via directly (See Datasheet)", 4 USB1 (power) "USB or Wall Adapter Power Input for Both Buck Converters. A 4.7uF or larger bypass capacitor should be connected from this pin to ground. The bypass capacitor should be located as close to the IC as possible and should via (See Datasheet)", 5 SW2 (power) "Buck Converter 2 Switch Pin. This pin should be connected to one side of the buck inductor.", 6 PWRON (in) "Power-On Input. Forcing this input high enables the IC. Typically, the PWRKEY input is used to initially enable the LTC3101 while the microprocessor is powering up. Once the microprocessor is initialized, it forces PWRON (See Datasheet)", 7 FB3 (in) "Feedback Voltage Input for the Buck-Boost Converter. The resistor divider connected to this pin sets the output voltage for buck-boost converter", 8 PWRKEY (in) "Pushbutton Power O\N\/OFF Key. Forcing this pin to ground will turn on the LTC3101 DC/DC converters in the internally controlled sequence and initiate a microprocessor reset. This pin is usually connected to an external (See Datasheet)", 9 PBSTAT (oc) "Power O\N\/OFF Key Status Pin. This is a debounced, open-drain output that indicates the state of the PWRKEY pin to the microprocessor. In the typical application, the microprocessor monitors this pin to detect a second (See Datasheet)", 10 LDO (power) "Always-Alive LDO Output. This output is internally regulated to 1.8V (typical) and is guaranteed to supply an external load of up to 50mA. The LDO output is always active whenever either supply, battery or USB power, is (See Datasheet)", 11 MAX (power) "Power Output That Tracks the Higher Voltage Input Supply. This output is driven to the higher of the two power inputs, USB2 or BAT2. This output can support a load current of up to 200mA and is short-circuit protected. The (See Datasheet)", 12 CRS "Power-on Reset Duration Programming Capacitor. An external capacitor is connected from CRS to ground to set the duration of the microprocessor poweron reset signal.", 13 ~{RESET} (out) "Active-Low uP Reset and Fault Signal. This pin provides an active-low microprocessor reset signal. During the power-up sequence, the uP reset signal is held low until all converters are in regulation for a duration (See Datasheet)", 14 BAT2 (power) "Battery Power Input for the Buck-Boost Converter. A 10uF or larger bypass capacitor should be connected between this pin and ground. The bypass capacitor should be located as close to the IC as possible and should via (See Datasheet)", 15 SW3A "Buck-Boost Switch Pin. This pin should be connected to one side of the buck-boost inductor.", 16 USB2 (power) "USB or Wall Adapter Power Input for the Buck-Boost Converter. A 10uF or larger bypass capacitor should be connected from this pin to ground. The bypass capacitor should be located as close to the IC as possible and should (See Datasheet)", 17 OUT3 (power) "Buck-Boost Output Voltage. This pin is the power output for the buck-boost regulator. It should be connected to a low ESR capacitor with a value of at least 10uF. For higher output current applications (>400mA), it is (See Datasheet)", 18 HSO (out) "Hot Swap Output. An internal current-limited switch connects the HSO output to the buck-boost output voltage after the buck-boost output reaches regulation. With the buck-boost operating in PWM mode, this output is (See Datasheet)", 19 ENA3 (in) "Enable Pin for Buck-Boost Converter. Forcing this pin above 1V will turn on the buck-boost converter when the IC is enabled (via the pushbutton interface). Forcing this pin below 0.3V will disable the buck-boost converter.", 20 SW3B "Buck-Boost Switch Pin. This pin should be connected to one side of the buck-boost inductor", 21 ENA1 (in) "Enable Pin for Buck Converter 1. Forcing this pin above 1V will turn on the buck converter when the IC is enabled (via the pushbutton interface). Forcing this pin below 0.3V will disable buck converter 1.", 22 FB2 (in) "Feedback Voltage Input for Buck Converter 2. The resistor divider connected to this pin sets the output voltage for buck converter 2.", 23 FB1 (in) "Feedback Voltage Input for Buck Converter 1. The resistor divider connected to this pin sets the output voltage for buck converter 1.", 24 ENA2 (in) "Enable Pin for Buck Converter 2. Forcing this pin above 1V will turn on the buck converter when the IC is enabled (via the pushbutton interface). Forcing this pin below 0.3V will disable buck converter 2.", 25 EP (power) "Small-Signal and Power Ground for the IC. The Exposed Pad must be soldered to the PCB and electrically connected to ground through the shortest and lowest impedance connection possible."

## LTC3445EUF#PBF
designator U?
I2C Controllable Buck Regulator with Two LDO, 2.5 to 5.5 V Vin, 24-pin QFN (UF-24), -40 to 85 degC, Pb-Free; Manufacturer: Linear Technology; PartNumber: LTC3445EUF#PBF; Number of Outputs: 3; Vin Max(V): 5.5; Vin Min(V): 2.5; DatasheetVersion: Rev. A; PackageVersion: Rev. B, 02/2012; PackageReference: UF24; PackageDescription: 24-Pin Plastic QFN, Body 4 x 4 mm, Pitch 0.5 mm; Supplier 1: Digi-Key; Supplier Part Number 1: LTC3445EUF#PBF-ND; Supplier 2: Farnell; Supplier Part Number 2: 2295063; Supplier 3: Newark; Supplier Part Number 3: 56M7819; RoHS: TRUE; Mounting Technology: Surface Mount; Code_JEDEC: MO-220; ComponentLink1Description: Manufacturer URL; ComponentLink1URL: http://www.linear.com/; ComponentLink2Description: Datasheet; ComponentLink2URL: http://cds.linear.com/docs/en/datasheet/3445fa.pdf; ComponentLink3Description: Package Specification; ComponentLink3URL: http://cds.linear.com/docs/en/packaging/%28UF24%29%20QFN%2005-08-1697%20Rev%20B.pdf
footprint LT-UF-24_N (QFN, 24-Leads, Body 4.1x4.1mm, Pitch 0.5mm, Thermal Pad 2.45x2.45mm, IPC Medium Density)
footprint LT-UF-24_L (QFN, 24-Leads, Body 4.1x4.1mm, Pitch 0.5mm, Thermal Pad 2.45x2.45mm, IPC High Density)
footprint LT-UF-24_M (QFN, 24-Leads, Body 4.1x4.1mm, Pitch 0.5mm, Thermal Pad 2.45x2.45mm, IPC Low Density)
pins: 1 VTRACK (in) "Supply Sense that VCC BATT Tracks when above 3V. Must be =< VCC1.", 2 VBACKUP (power) "Back-Up Battery Input.", 3 VCC1 (power) "Power Supply (2.5V to 5.5V). Both VCC1 pins must be connected externally to the 2.5V to 5.5V supply.", 4 PGOOD (oc) "Fault Report (Undervoltage). Open-drain driver sinks current whenever LDO1, LDO2 or buck outputs are low.", 5 ADD7 (in) "I2C Strappable Address (Bit 7)-VCC1 or ground.", 6 SDA (in) "I2C Data Input.", 7 NC "Not Connected.", 8 SCL (in) "I2C Clock Input.", 9 ADD6 (in) "I2C Strappable Address (Bit 6)-VCC1 or ground.", 10 VCC1 (power) "Power Supply (2.5V to 5.5V). Both VCC1 pins must be connected externally to the 2.5V to 5.5V supply.", 11 GND (power) "Buck NFET Ground.", 12 NC "Not Connected.", 13 NC "Not Connected.", 14 SW (power) "Buck Regulator Switch.", 15 RUN (in) "Chip Enable. 1.5V enables the part. Forcing this pin below 0.3V shuts down the device. In shutdown, all functions are disabled, drawing <35uA supply current. Do not leave RUN floating. Must be =< VCC1.", 16 NC "Not Connected.", 17 FB (in) "Buck Regulator Feedback.", 18 VCC BATT (power) "VCC BATT PowerPath Output.", 19 ~{BATTFAULT} (oc) "Open-Drain Output. It is low when VCC1 is low.", 20 LDO1FB (in) "LDO1 Regulator Sense.", 21 LDO1 (power) "LDO1 Regulator Output.", 22 VCC2 (power) "LDO Regulator Supply Voltage.", 23 LDO2 (power) "LDO2 Regulator Output.", 24 LDO2FB (in) "LDO2 Regulator Sense.", 25 EP (power) "Ground. Must be soldered to PCB ground for electrical contact and optimum thermal performance."

## LTC3445EUF#TRPBF
designator U?
I2C Controllable Buck Regulator with Two LDO, 2.5 to 5.5 V Vin, 24-pin QFN (UF-24), -40 to 85 degC, Pb-Free, Tape and Reel; Manufacturer: Linear Technology; PartNumber: LTC3445EUF#TRPBF; Number of Outputs: 3; Vin Max(V): 5.5; Vin Min(V): 2.5; DatasheetVersion: Rev. A; PackageVersion: Rev. B, 02/2012; PackageReference: UF24; PackageDescription: 24-Pin Plastic QFN, Body 4 x 4 mm, Pitch 0.5 mm; Supplier 1: Digi-Key; Supplier Part Number 1: LTC3445EUF#TRPBF-ND; Supplier 2: Newark; Supplier Part Number 2: 44P3978; Packing: Tape and Reel; RoHS: TRUE; Mounting Technology: Surface Mount; Code_JEDEC: MO-220; ComponentLink1Description: Manufacturer URL; ComponentLink1URL: http://www.linear.com/; ComponentLink2Description: Datasheet; ComponentLink2URL: http://cds.linear.com/docs/en/datasheet/3445fa.pdf; ComponentLink3Description: Package Specification; ComponentLink3URL: http://cds.linear.com/docs/en/packaging/%28UF24%29%20QFN%2005-08-1697%20Rev%20B.pdf
footprint LT-UF-24_N (QFN, 24-Leads, Body 4.1x4.1mm, Pitch 0.5mm, Thermal Pad 2.45x2.45mm, IPC Medium Density)
footprint LT-UF-24_L (QFN, 24-Leads, Body 4.1x4.1mm, Pitch 0.5mm, Thermal Pad 2.45x2.45mm, IPC High Density)
footprint LT-UF-24_M (QFN, 24-Leads, Body 4.1x4.1mm, Pitch 0.5mm, Thermal Pad 2.45x2.45mm, IPC Low Density)
pins: 1 VTRACK (in) "Supply Sense that VCC BATT Tracks when above 3V. Must be =< VCC1.", 2 VBACKUP (power) "Back-Up Battery Input.", 3 VCC1 (power) "Power Supply (2.5V to 5.5V). Both VCC1 pins must be connected externally to the 2.5V to 5.5V supply.", 4 PGOOD (oc) "Fault Report (Undervoltage). Open-drain driver sinks current whenever LDO1, LDO2 or buck outputs are low.", 5 ADD7 (in) "I2C Strappable Address (Bit 7)-VCC1 or ground.", 6 SDA (in) "I2C Data Input.", 7 NC "Not Connected.", 8 SCL (in) "I2C Clock Input.", 9 ADD6 (in) "I2C Strappable Address (Bit 6)-VCC1 or ground.", 10 VCC1 (power) "Power Supply (2.5V to 5.5V). Both VCC1 pins must be connected externally to the 2.5V to 5.5V supply.", 11 GND (power) "Buck NFET Ground.", 12 NC "Not Connected.", 13 NC "Not Connected.", 14 SW (power) "Buck Regulator Switch.", 15 RUN (in) "Chip Enable. 1.5V enables the part. Forcing this pin below 0.3V shuts down the device. In shutdown, all functions are disabled, drawing <35uA supply current. Do not leave RUN floating. Must be =< VCC1.", 16 NC "Not Connected.", 17 FB (in) "Buck Regulator Feedback.", 18 VCC BATT (power) "VCC BATT PowerPath Output.", 19 ~{BATTFAULT} (oc) "Open-Drain Output. It is low when VCC1 is low.", 20 LDO1FB (in) "LDO1 Regulator Sense.", 21 LDO1 (power) "LDO1 Regulator Output.", 22 VCC2 (power) "LDO Regulator Supply Voltage.", 23 LDO2 (power) "LDO2 Regulator Output.", 24 LDO2FB (in) "LDO2 Regulator Sense.", 25 EP (power) "Ground. Must be soldered to PCB ground for electrical contact and optimum thermal performance."